# Altium schematic symbol library Microchips.SchLib: 46 symbols
Pins are listed as number, name and electrical type; pins without a type are passive.

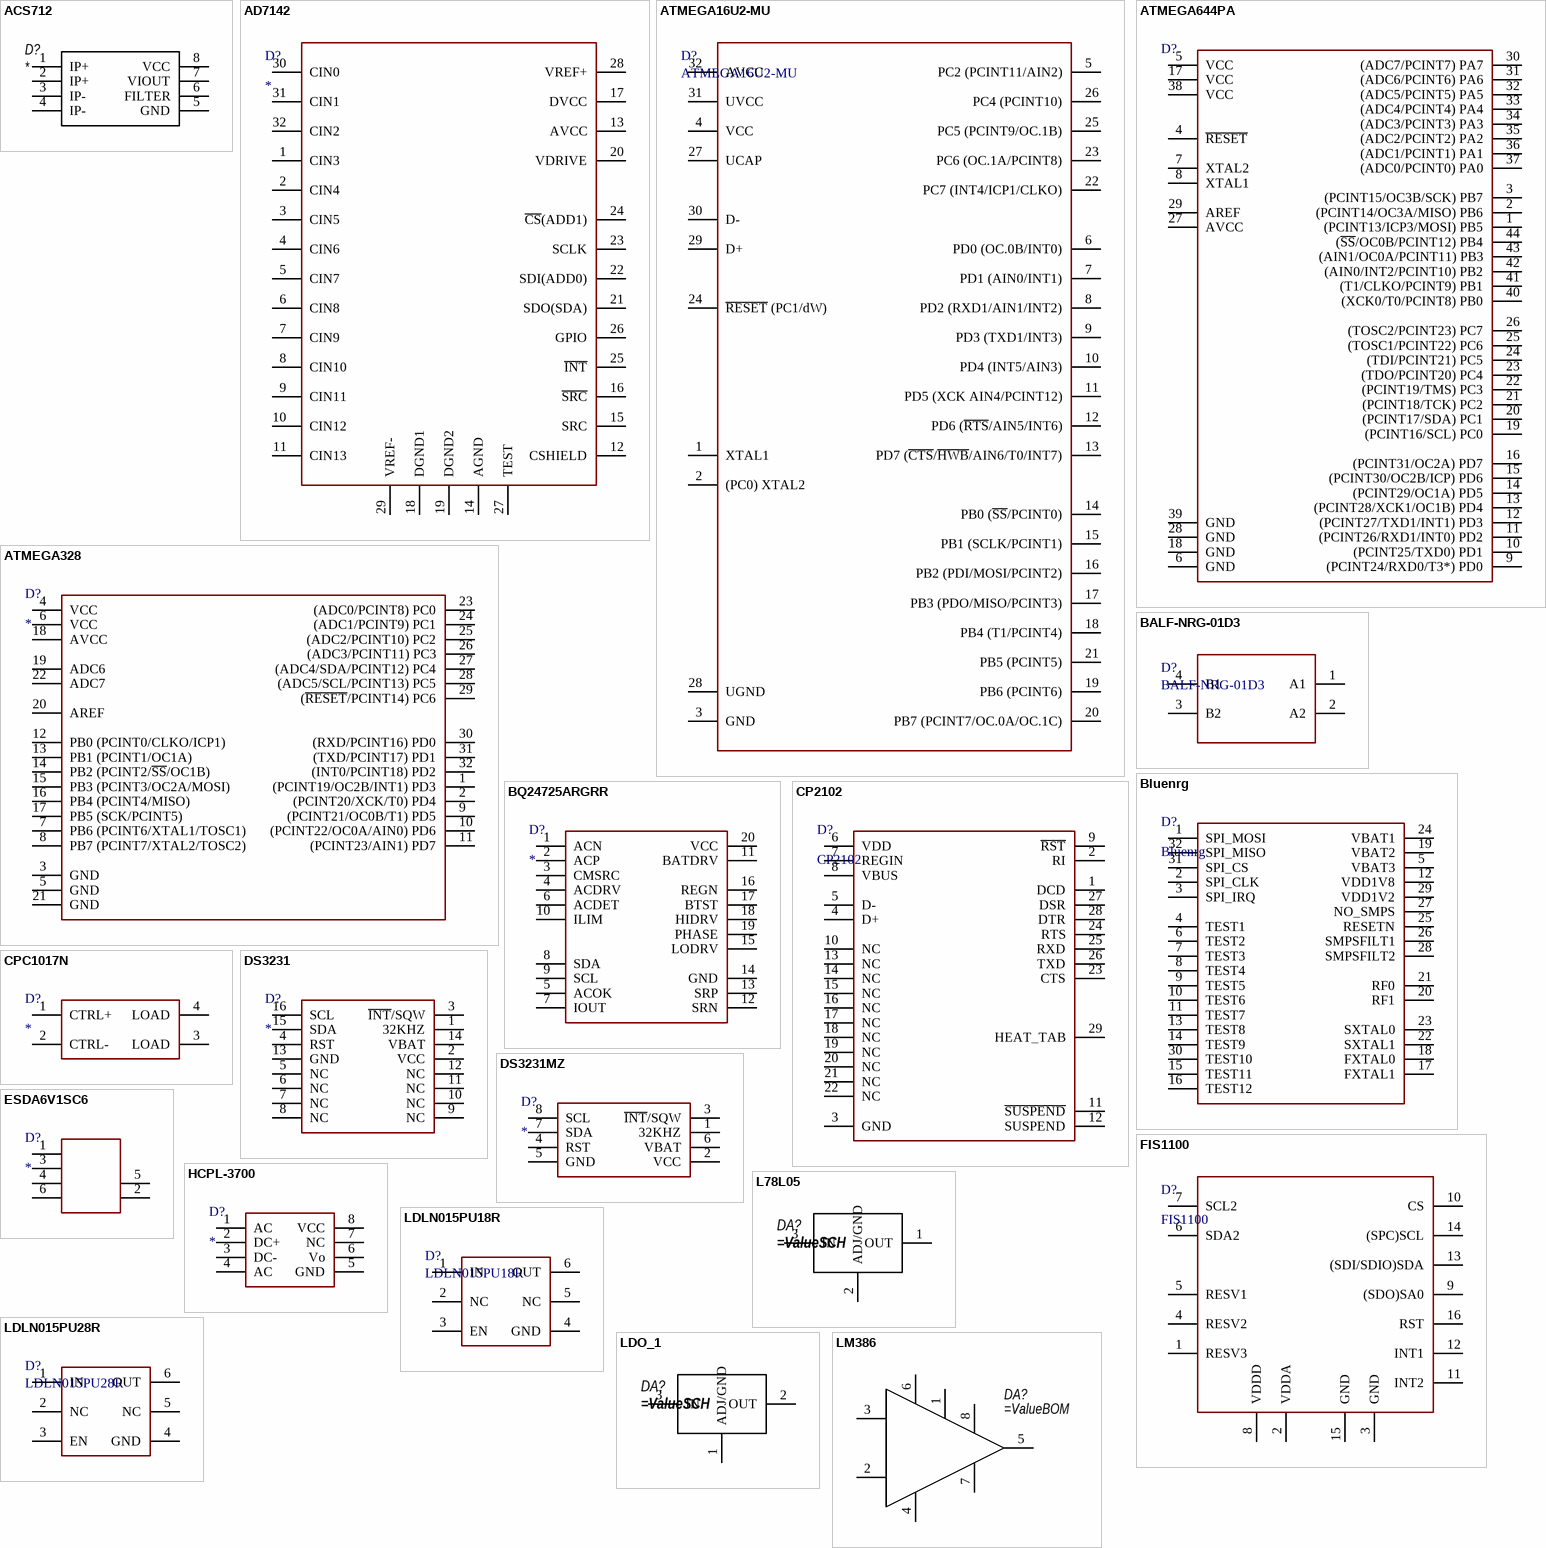
[diagram p0: symbols ACS712 to LM386]

## ACS712
designator D?
pins: 1 IP+, 2 IP+, 3 IP-, 4 IP-, 5 GND, 6 FILTER, 7 VIOUT, 8 VCC

## AD7142
designator D?
pins: 1 CIN3, 2 CIN4, 3 CIN5, 4 CIN6, 5 CIN7, 6 CIN8, 7 CIN9, 8 CIN10, 9 CIN11, 10 CIN12, 11 CIN13, 12 CSHIELD, 13 AVCC, 14 AGND, 15 SRC, 16 ~{SRC}, 17 DVCC, 18 DGND1, 19 DGND2, 20 VDRIVE, 21 SDO(SDA), 22 SDI(ADD0), 23 SCLK, 24 ~{CS}(ADD1), 25 ~{INT}, 26 GPIO, 27 TEST, 28 VREF+, 29 VREF-, 30 CIN0, 31 CIN1, 32 CIN2

## ATMEGA16U2-MU
designator D?
pins: 1 XTAL1, 2 (PC0) XTAL2, 3 GND, 4 VCC, 5 PC2 (PCINT11/AIN2), 6 PD0 (OC.0B/INT0), 7 PD1 (AIN0/INT1), 8 PD2 (RXD1/AIN1/INT2), 9 PD3 (TXD1/INT3), 10 PD4 (INT5/AIN3), 11 PD5 (XCK AIN4/PCINT12), 12 PD6 (~{RTS}/AIN5/INT6), 13 PD7 (~{CTS}/~{HWB}/AIN6/T0/INT7), 14 PB0 (~{SS}/PCINT0), 15 PB1 (SCLK/PCINT1), 16 PB2 (PDI/MOSI/PCINT2), 17 PB3 (PDO/MISO/PCINT3), 18 PB4 (T1/PCINT4), 19 PB6 (PCINT6), 20 PB7 (PCINT7/OC.0A/OC.1C), 21 PB5 (PCINT5), 22 PC7 (INT4/ICP1/CLKO), 23 PC6 (OC.1A/PCINT8), 24 ~{RESET} (PC1/dW), 25 PC5 (PCINT9/OC.1B), 26 PC4 (PCINT10), 27 UCAP, 28 UGND, 29 D+, 30 D-, 31 UVCC, 32 AVCC

## ATMEGA328
designator D?
pins: 1 (PCINT19/OC2B/INT1) PD3, 2 (PCINT20/XCK/T0) PD4, 3 GND, 4 VCC, 5 GND, 6 VCC, 7 PB6 (PCINT6/XTAL1/TOSC1), 8 PB7 (PCINT7/XTAL2/TOSC2) , 9 (PCINT21/OC0B/T1) PD5, 10 (PCINT22/OC0A/AIN0) PD6, 11 (PCINT23/AIN1) PD7, 12 PB0 (PCINT0/CLKO/ICP1), 13 PB1 (PCINT1/OC1A), 14 PB2 (PCINT2/~{SS}/OC1B), 15 PB3 (PCINT3/OC2A/MOSI), 16 PB4 (PCINT4/MISO) , 17 PB5 (SCK/PCINT5), 18 AVCC, 19 ADC6, 20 AREF, 21 GND, 22 ADC7, 23 (ADC0/PCINT8) PC0, 24 (ADC1/PCINT9) PC1, 25 (ADC2/PCINT10) PC2, 26 (ADC3/PCINT11) PC3, 27 (ADC4/SDA/PCINT12) PC4, 28 (ADC5/SCL/PCINT13) PC5, 29 (~{RESET}/PCINT14) PC6, 30 (RXD/PCINT16) PD0, 31 (TXD/PCINT17) PD1, 32 (INT0/PCINT18) PD2

## ATMEGA644PA
designator D?  (value not drawn)
pins: 1 (PCINT13/ICP3/MOSI) PB5, 2 (PCINT14/OC3A/MISO) PB6, 3 (PCINT15/OC3B/SCK) PB7, 4 ~{RESET}, 5 VCC, 6 GND, 7 XTAL2, 8 XTAL1, 9 (PCINT24/RXD0/T3*) PD0, 10 (PCINT25/TXD0) PD1, 11 (PCINT26/RXD1/INT0) PD2, 12 (PCINT27/TXD1/INT1) PD3, 13 (PCINT28/XCK1/OC1B) PD4, 14 (PCINT29/OC1A) PD5, 15 (PCINT30/OC2B/ICP) PD6, 16 (PCINT31/OC2A) PD7, 17 VCC, 18 GND, 19 (PCINT16/SCL) PC0, 20 (PCINT17/SDA) PC1, 21 (PCINT18/TCK) PC2, 22 (PCINT19/TMS) PC3, 23 (TDO/PCINT20) PC4, 24 (TDI/PCINT21) PC5, 25 (TOSC1/PCINT22) PC6, 26 (TOSC2/PCINT23) PC7, 27 AVCC, 28 GND, 29 AREF, 30 (ADC7/PCINT7) PA7, 31 (ADC6/PCINT6) PA6, 32 (ADC5/PCINT5) PA5, 33 (ADC4/PCINT4) PA4, 34 (ADC3/PCINT3) PA3, 35 (ADC2/PCINT2) PA2, 36 (ADC1/PCINT1) PA1, 37 (ADC0/PCINT0) PA0, 38 VCC, 39 GND, 40 (XCK0/T0/PCINT8) PB0, 41 (T1/CLKO/PCINT9) PB1, 42 (AIN0/INT2/PCINT10) PB2, 43 (AIN1/OC0A/PCINT11) PB3, 44 (~{SS}/OC0B/PCINT12) PB4

## BALF-NRG-01D3
designator D?
footprint BALF-NRG-BGA (BGA, 4-Leads, Body 1,40x0,85mmx0,63mm, Pitch 0,40mm)
pins: 1 A1, 2 A2, 3 B2, 4 B1

## Bluenrg
designator D?
BLUENRG MODULE
footprint QFN32 (QFN, 32-Leads, Body 5,00x5,00mm, Pitch 0,50mm, Thermal Pad 3,25x3,25mm, IPC Medium Density)
pins: 1 SPI_MOSI, 2 SPI_CLK, 3 SPI_IRQ, 4 TEST1, 5 VBAT3, 6 TEST2, 7 TEST3, 8 TEST4, 9 TEST5, 10 TEST6, 11 TEST7, 12 VDD1V8, 13 TEST8, 14 TEST9, 15 TEST11, 16 TEST12, 17 FXTAL1, 18 FXTAL0, 19 VBAT2, 20 RF1, 21 RF0, 22 SXTAL1, 23 SXTAL0, 24 VBAT1, 25 RESETN, 26 SMPSFILT1, 27 NO_SMPS, 28 SMPSFILT2, 29 VDD1V2, 30 TEST10, 31 SPI_CS, 32 SPI_MISO

## BQ24725ARGRR
designator D?
bq24725A 1-4 Cell Li+ Battery SMBus Charge Controller with N-Channel Power MOSFET  Selector
pins: 1 ACN, 2 ACP, 3 CMSRC, 4 ACDRV, 5 ACOK, 6 ACDET, 7 IOUT, 8 SDA, 9 SCL, 10 ILIM, 11 BATDRV, 12 SRN, 13 SRP, 14 GND, 15 LODRV, 16 REGN, 17 BTST, 18 HIDRV, 19 PHASE, 20 VCC

## CP2102
designator D?
footprint QFN28 (QFN, 28-Leads, Body 5,00x5,00mm, Pitch 0,50mm, Thermal Pad 3,25x3,25mm, IPC Medium Density)
pins: 1 DCD, 2 RI, 3 GND, 4 D+, 5 D-, 6 VDD, 7 REGIN, 8 VBUS, 9 ~{RST}, 10 NC, 11 ~{SUSPEND}, 12 SUSPEND, 13 NC, 14 NC, 15 NC, 16 NC, 17 NC, 18 NC, 19 NC, 20 NC, 21 NC, 22 NC, 23 CTS, 24 RTS, 25 RXD, 26 TXD, 27 DSR, 28 DTR, 29 HEAT_TAB

## CPC1017N
designator D?
pins: 1 CTRL+, 2 CTRL-, 3 LOAD, 4 LOAD

## DS3231
designator D?
pins: 1 32KHZ, 2 VCC, 3 ~{INT}/SQW, 4 RST, 5 NC, 6 NC, 7 NC, 8 NC, 9 NC, 10 NC, 11 NC, 12 NC, 13 GND, 14 VBAT, 15 SDA, 16 SCL

## DS3231MZ
designator D?
pins: 1 32KHZ, 2 VCC, 3 ~{INT}/SQW, 4 RST, 5 GND, 6 VBAT, 7 SDA, 8 SCL

## ESDA6V1SC6
designator D?
pins: 1, 2, 3, 4, 5, 6

## FIS1100
designator D?
pins: 1 RESV3, 2 VDDA, 3 GND, 4 RESV2, 5 RESV1, 6 SDA2, 7 SCL2, 8 VDDD, 9 (SDO)SA0, 10 CS, 11 INT2, 12 INT1, 13 (SDI/SDIO)SDA, 14 (SPC)SCL, 15 GND, 16 RST

## HCPL-3700
designator D?
pins: 1 AC, 2 DC+, 3 DC-, 4 AC, 5 GND, 6 Vo, 7 NC, 8 VCC

## L78L05
designator DA?
pins: 1 OUT, 2 ADJ/GND, 3 IN

## LDLN015PU18R
designator D?
pins: 1 IN, 2 NC, 3 EN, 4 GND, 5 NC, 6 OUT

## LDLN015PU28R
designator D?
pins: 1 IN, 2 NC, 3 EN, 4 GND, 5 NC, 6 OUT

## LDO_1
designator DA?
pins: 1 ADJ/GND, 2 OUT, 3 IN

## LM386
designator DA?
pins: 1, 2 -, 3 +, 4, 5, 6, 7, 8

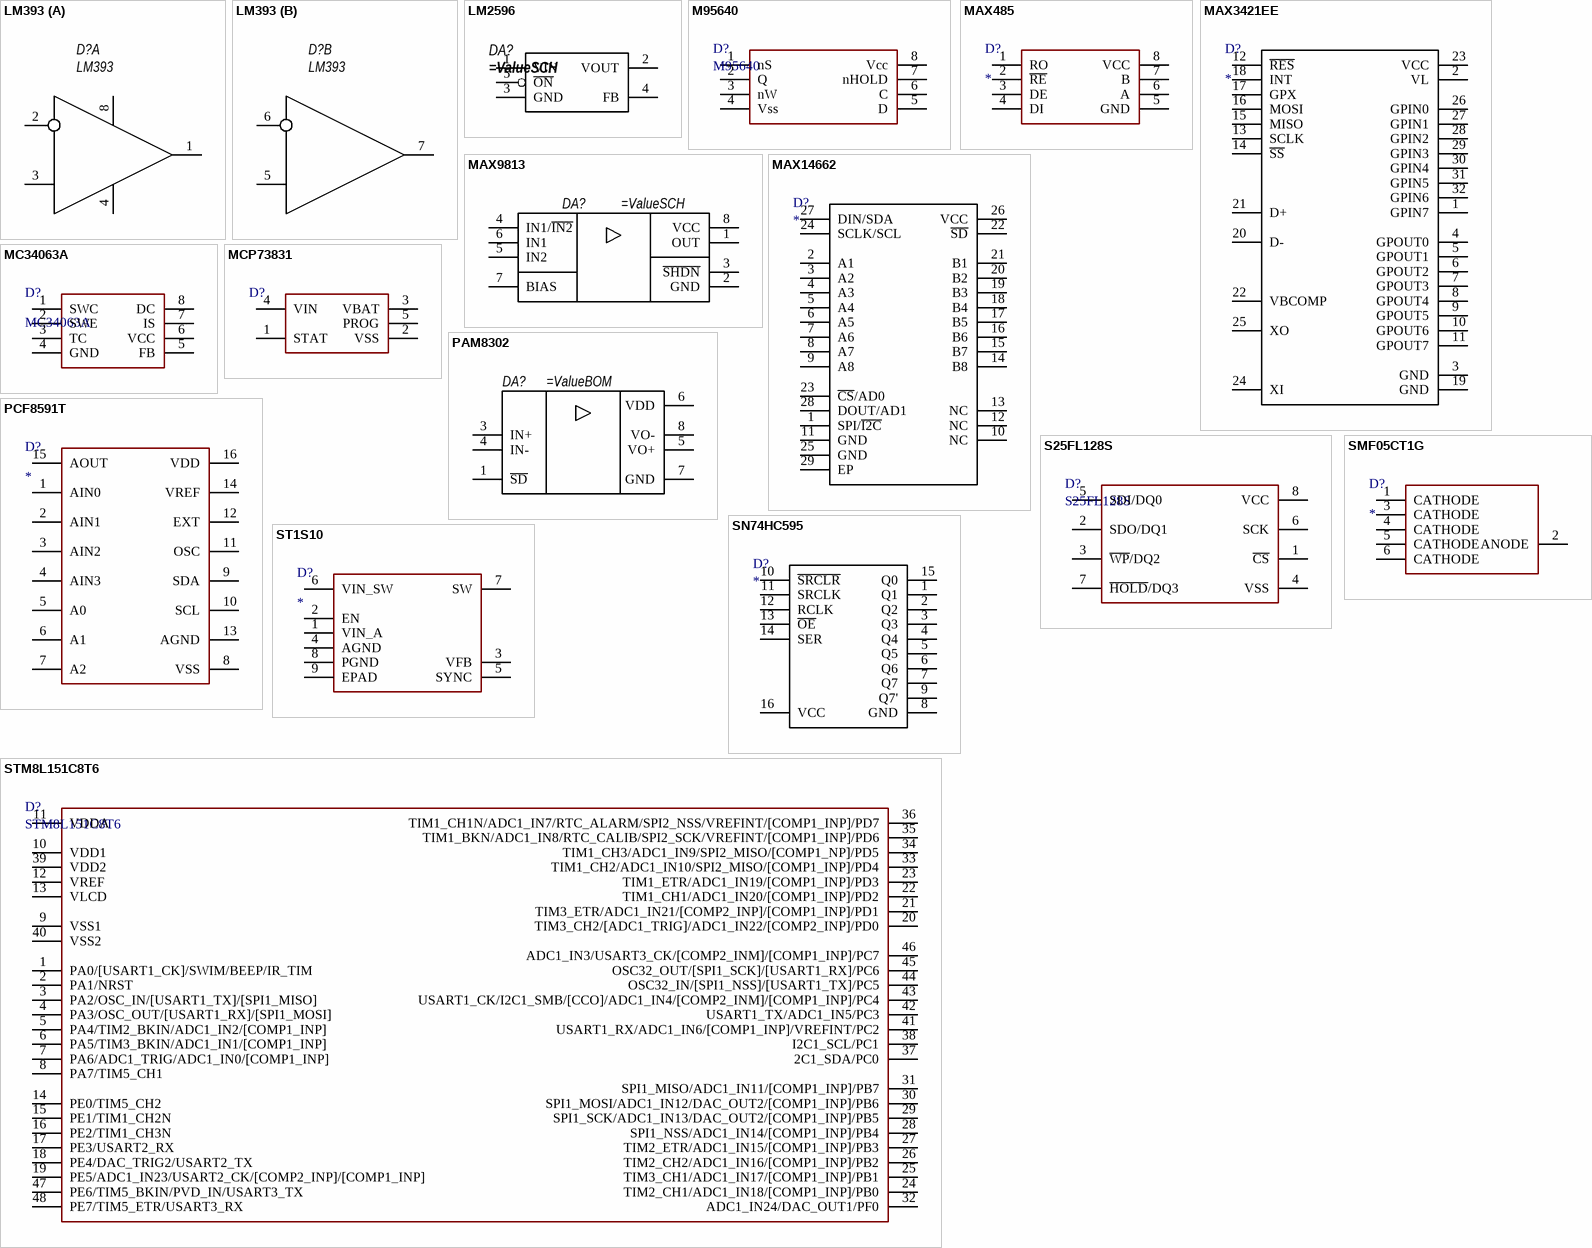
[diagram p1: symbols LM393 to STM8L151C8T6]

## LM393
designator D?
part A pins: 1, 2 -, 3 +, 4, 8
part B pins: 5 +, 6 -, 7

## LM2596
designator DA?
pins: 1 VIN, 2 VOUT, 3 GND, 4 FB, 5 ~{ON}

## M95640
designator D?
64-kbit serial SPI EEPROM
footprint SOIC-8N (SOIC, 8-Leads, Body 4,90x3,90mm, Pitch 1,27mm, IPC Medium Density)
pins: 1 nS, 2 Q, 3 nW, 4 Vss, 5 D, 6 C, 7 nHOLD, 8 Vcc

## MAX485
designator D?
pins: 1 RO, 2 ~{RE}, 3 DE, 4 DI, 5 GND, 6 A, 7 B, 8 VCC

## MAX3421EE
designator D?
pins: 1 GPIN7, 2 VL, 3 GND, 4 GPOUT0, 5 GPOUT1, 6 GPOUT2, 7 GPOUT3, 8 GPOUT4, 9 GPOUT5, 10 GPOUT6, 11 GPOUT7, 12 ~{RES}, 13 SCLK, 14 ~{SS}, 15 MISO, 16 MOSI, 17 GPX, 18 INT, 19 GND, 20 D-, 21 D+, 22 VBCOMP, 23 VCC, 24 XI, 25 XO, 26 GPIN0, 27 GPIN1, 28 GPIN2, 29 GPIN3, 30 GPIN4, 31 GPIN5, 32 GPIN6

## MAX9813
designator DA?
pins: 1 OUT, 2 GND, 3 ~{SHDN}, 4 IN1/~{IN2}, 5 IN2, 6 IN1, 7 BIAS, 8 VCC

## MAX14662
designator D?
pins: 1 SPI/~{I2C}, 2 A1, 3 A2, 4 A3, 5 A4, 6 A5, 7 A6, 8 A7, 9 A8, 10 NC, 11 GND, 12 NC, 13 NC, 14 B8, 15 B7, 16 B6, 17 B5, 18 B4, 19 B3, 20 B2, 21 B1, 22 ~{SD}, 23 ~{CS}/AD0, 24 SCLK/SCL, 25 GND, 26 VCC, 27 DIN/SDA, 28 DOUT/AD1, 29 EP

## MC34063A
designator D?
footprint SOIC-8 NB (SOIC, 8-Leads, Body 4,90x3,90mm, Pitch 1,27mm, IPC Medium Density)
pins: 1 SWC, 2 SWE, 3 TC, 4 GND, 5 FB, 6 VCC, 7 IS, 8 DC

## MCP73831
designator D?  (value not drawn)
footprint SOT23-5 (SOT23, 5-Leads, Body 2,90x2,70mm, Pitch 0,95mm, IPC Medium Density)
pins: 1 STAT, 2 VSS, 3 VBAT, 4 VIN, 5 PROG

## PAM8302
designator DA?
pins: 1 ~{SD}, 2 NC hidden, 3 IN+, 4 IN-, 5 VO+, 6 VDD, 7 GND, 8 VO-

## PCF8591T
designator D?
pins: 1 AIN0, 2 AIN1, 3 AIN2, 4 AIN3, 5 A0, 6 A1, 7 A2, 8 VSS, 9 SDA, 10 SCL, 11 OSC, 12 EXT, 13 AGND, 14 VREF, 15 AOUT, 16 VDD

## S25FL128S
designator D?
pins: 1 ~{CS}, 2 SDO/DQ1, 3 ~{WP}/DQ2, 4 VSS, 5 SDI/DQ0, 6 SCK, 7 ~{HOLD}/DQ3, 8 VCC

## SMF05CT1G
designator D?
pins: 1 CATHODE, 2 ANODE, 3 CATHODE, 4 CATHODE, 5 CATHODE, 6 CATHODE

## SN74HC595
designator D?
pins: 1 Q1, 2 Q2, 3 Q3, 4 Q4, 5 Q5, 6 Q6, 7 Q7, 8 GND, 9 Q7', 10 ~{SRCLR}, 11 SRCLK , 12 RCLK, 13 ~{OE}, 14 SER, 15 Q0, 16 VCC

## ST1S10
designator D?
pins: 1 VIN_A, 2 EN, 3 VFB, 4 AGND, 5 SYNC, 6 VIN_SW, 7 SW, 8 PGND, 9 EPAD

## STM8L151C8T6
designator D?
footprint LQFP48 (LQFP, 48-Leads, Body 7,00x7,00mm, Pitch 0,50mm, IPC Medium Density)
pins: 1 PA0/[USART1_CK]/SWIM/BEEP/IR_TIM, 2 PA1/NRST, 3 PA2/OSC_IN/[USART1_TX]/[SPI1_MISO], 4 PA3/OSC_OUT/[USART1_RX]/[SPI1_MOSI], 5 PA4/TIM2_BKIN/ADC1_IN2/[COMP1_INP], 6 PA5/TIM3_BKIN/ADC1_IN1/[COMP1_INP], 7 PA6/ADC1_TRIG/ADC1_IN0/[COMP1_INP], 8 PA7/TIM5_CH1, 9 VSS1, 10 VDD1, 11 VDDA, 12 VREF, 13 VLCD, 14 PE0/TIM5_CH2, 15 PE1/TIM1_CH2N, 16 PE2/TIM1_CH3N, 17 PE3/USART2_RX, 18 PE4/DAC_TRIG2/USART2_TX, 19 PE5/ADC1_IN23/USART2_CK/[COMP2_INP]/[COMP1_INP], 20 TIM3_CH2/[ADC1_TRIG]/ADC1_IN22/[COMP2_INP]/PD0, 21 TIM3_ETR/ADC1_IN21/[COMP2_INP]/[COMP1_INP]/PD1, 22 TIM1_CH1/ADC1_IN20/[COMP1_INP]/PD2, 23 TIM1_ETR/ADC1_IN19/[COMP1_INP]/PD3, 24 TIM2_CH1/ADC1_IN18/[COMP1_INP]/PB0, 25 TIM3_CH1/ADC1_IN17/[COMP1_INP]/PB1, 26 TIM2_CH2/ADC1_IN16/[COMP1_INP]/PB2, 27 TIM2_ETR/ADC1_IN15/[COMP1_INP]/PB3, 28 SPI1_NSS/ADC1_IN14/[COMP1_INP]/PB4, 29 SPI1_SCK/ADC1_IN13/DAC_OUT2/[COMP1_INP]/PB5, 30 SPI1_MOSI/ADC1_IN12/DAC_OUT2/[COMP1_INP]/PB6, 31 SPI1_MISO/ADC1_IN11/[COMP1_INP]/PB7, 32 ADC1_IN24/DAC_OUT1/PF0, 33 TIM1_CH2/ADC1_IN10/SPI2_MISO/[COMP1_INP]/PD4, 34 TIM1_CH3/ADC1_IN9/SPI2_MISO/[COMP1_NP]/PD5, 35 TIM1_BKN/ADC1_IN8/RTC_CALIB/SPI2_SCK/VREFINT/[COMP1_INP]/PD6, 36 TIM1_CH1N/ADC1_IN7/RTC_ALARM/SPI2_NSS/VREFINT/[COMP1_INP]/PD7, 37 2C1_SDA/PC0, 38 I2C1_SCL/PC1, 39 VDD2, 40 VSS2, 41 USART1_RX/ADC1_IN6/[COMP1_INP]/VREFINT/PC2, 42 USART1_TX/ADC1_IN5/PC3, 43 USART1_CK/I2C1_SMB/[CCO]/ADC1_IN4/[COMP2_INM]/[COMP1_INP]/PC4, 44 OSC32_IN/[SPI1_NSS]/[USART1_TX]/PC5, 45 OSC32_OUT/[SPI1_SCK]/[USART1_RX]/PC6, 46 ADC1_IN3/USART3_CK/[COMP2_INM]/[COMP1_INP]/PC7, 47 PE6/TIM5_BKIN/PVD_IN/USART3_TX, 48 PE7/TIM5_ETR/USART3_RX

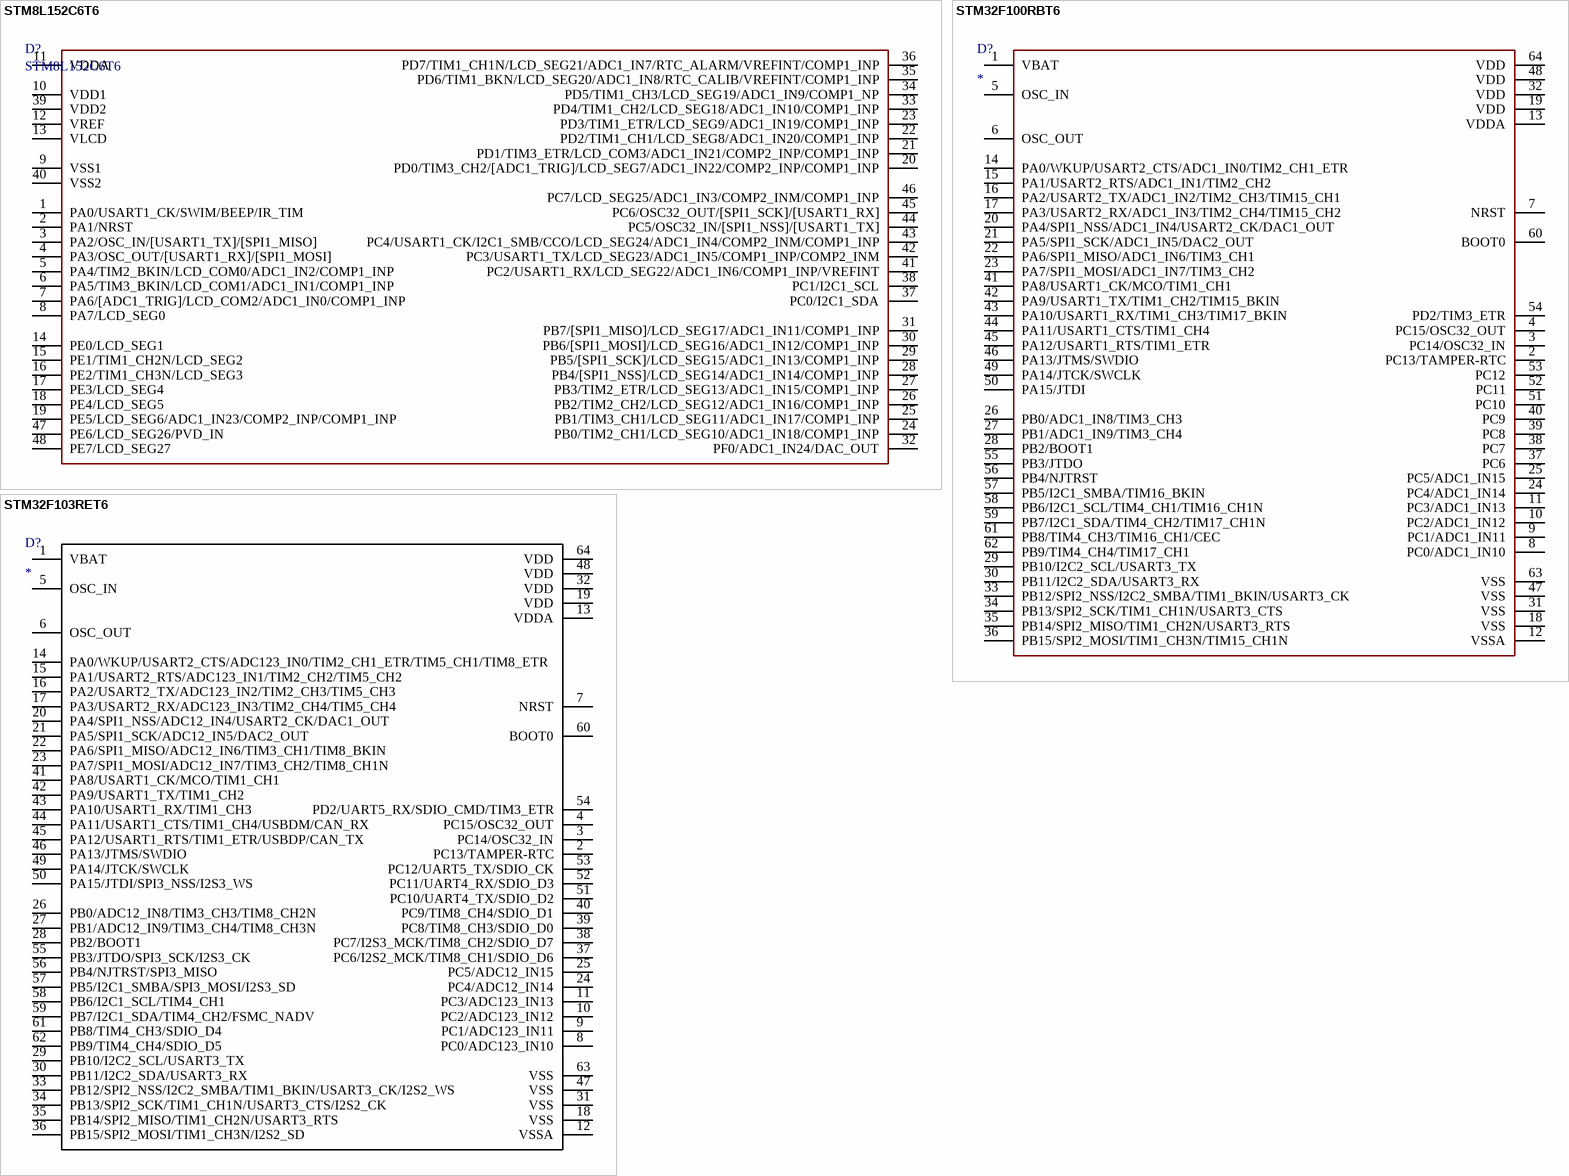
[diagram p2: symbols STM8L152C6T6 to STM32F103RET6]

## STM8L152C6T6
designator D?
footprint LQFP48 (LQFP, 48-Leads, Body 7,00x7,00mm, Pitch 0,50mm, IPC Medium Density)
pins: 1 PA0/USART1_CK/SWIM/BEEP/IR_TIM, 2 PA1/NRST, 3 PA2/OSC_IN/[USART1_TX]/[SPI1_MISO], 4 PA3/OSC_OUT/[USART1_RX]/[SPI1_MOSI], 5 PA4/TIM2_BKIN/LCD_COM0/ADC1_IN2/COMP1_INP, 6 PA5/TIM3_BKIN/LCD_COM1/ADC1_IN1/COMP1_INP, 7 PA6/[ADC1_TRIG]/LCD_COM2/ADC1_IN0/COMP1_INP, 8 PA7/LCD_SEG0, 9 VSS1, 10 VDD1, 11 VDDA, 12 VREF, 13 VLCD, 14 PE0/LCD_SEG1, 15 PE1/TIM1_CH2N/LCD_SEG2, 16 PE2/TIM1_CH3N/LCD_SEG3, 17 PE3/LCD_SEG4, 18 PE4/LCD_SEG5, 19 PE5/LCD_SEG6/ADC1_IN23/COMP2_INP/COMP1_INP, 20 PD0/TIM3_CH2/[ADC1_TRIG]/LCD_SEG7/ADC1_IN22/COMP2_INP/COMP1_INP, 21 PD1/TIM3_ETR/LCD_COM3/ADC1_IN21/COMP2_INP/COMP1_INP, 22 PD2/TIM1_CH1/LCD_SEG8/ADC1_IN20/COMP1_INP, 23 PD3/TIM1_ETR/LCD_SEG9/ADC1_IN19/COMP1_INP, 24 PB0/TIM2_CH1/LCD_SEG10/ADC1_IN18/COMP1_INP, 25 PB1/TIM3_CH1/LCD_SEG11/ADC1_IN17/COMP1_INP, 26 PB2/TIM2_CH2/LCD_SEG12/ADC1_IN16/COMP1_INP, 27 PB3/TIM2_ETR/LCD_SEG13/ADC1_IN15/COMP1_INP, 28 PB4/[SPI1_NSS]/LCD_SEG14/ADC1_IN14/COMP1_INP, 29 PB5/[SPI1_SCK]/LCD_SEG15/ADC1_IN13/COMP1_INP, 30 PB6/[SPI1_MOSI]/LCD_SEG16/ADC1_IN12/COMP1_INP, 31 PB7/[SPI1_MISO]/LCD_SEG17/ADC1_IN11/COMP1_INP, 32 PF0/ADC1_IN24/DAC_OUT, 33 PD4/TIM1_CH2/LCD_SEG18/ADC1_IN10/COMP1_INP, 34 PD5/TIM1_CH3/LCD_SEG19/ADC1_IN9/COMP1_NP, 35 PD6/TIM1_BKN/LCD_SEG20/ADC1_IN8/RTC_CALIB/VREFINT/COMP1_INP, 36 PD7/TIM1_CH1N/LCD_SEG21/ADC1_IN7/RTC_ALARM/VREFINT/COMP1_INP, 37 PC0/I2C1_SDA, 38 PC1/I2C1_SCL, 39 VDD2, 40 VSS2, 41 PC2/USART1_RX/LCD_SEG22/ADC1_IN6/COMP1_INP/VREFINT, 42 PC3/USART1_TX/LCD_SEG23/ADC1_IN5/COMP1_INP/COMP2_INM, 43 PC4/USART1_CK/I2C1_SMB/CCO/LCD_SEG24/ADC1_IN4/COMP2_INM/COMP1_INP, 44 PC5/OSC32_IN/[SPI1_NSS]/[USART1_TX], 45 PC6/OSC32_OUT/[SPI1_SCK]/[USART1_RX], 46 PC7/LCD_SEG25/ADC1_IN3/COMP2_INM/COMP1_INP, 47 PE6/LCD_SEG26/PVD_IN, 48 PE7/LCD_SEG27

## STM32F100RBT6
designator D?
pins: 1 VBAT, 2 PC13/TAMPER-RTC, 3 PC14/OSC32_IN, 4 PC15/OSC32_OUT, 5 OSC_IN, 6 OSC_OUT, 7 NRST, 8 PC0/ADC1_IN10, 9 PC1/ADC1_IN11, 10 PC2/ADC1_IN12, 11 PC3/ADC1_IN13, 12 VSSA, 13 VDDA, 14 PA0/WKUP/USART2_CTS/ADC1_IN0/TIM2_CH1_ETR, 15 PA1/USART2_RTS/ADC1_IN1/TIM2_CH2, 16 PA2/USART2_TX/ADC1_IN2/TIM2_CH3/TIM15_CH1, 17 PA3/USART2_RX/ADC1_IN3/TIM2_CH4/TIM15_CH2, 18 VSS, 19 VDD, 20 PA4/SPI1_NSS/ADC1_IN4/USART2_CK/DAC1_OUT, 21 PA5/SPI1_SCK/ADC1_IN5/DAC2_OUT, 22 PA6/SPI1_MISO/ADC1_IN6/TIM3_CH1, 23 PA7/SPI1_MOSI/ADC1_IN7/TIM3_CH2, 24 PC4/ADC1_IN14, 25 PC5/ADC1_IN15, 26 PB0/ADC1_IN8/TIM3_CH3, 27 PB1/ADC1_IN9/TIM3_CH4, 28 PB2/BOOT1, 29 PB10/I2C2_SCL/USART3_TX, 30 PB11/I2C2_SDA/USART3_RX, 31 VSS, 32 VDD, 33 PB12/SPI2_NSS/I2C2_SMBA/TIM1_BKIN/USART3_CK, 34 PB13/SPI2_SCK/TIM1_CH1N/USART3_CTS, 35 PB14/SPI2_MISO/TIM1_CH2N/USART3_RTS, 36 PB15/SPI2_MOSI/TIM1_CH3N/TIM15_CH1N, 37 PC6, 38 PC7, 39 PC8, 40 PC9, 41 PA8/USART1_CK/MCO/TIM1_CH1, 42 PA9/USART1_TX/TIM1_CH2/TIM15_BKIN, 43 PA10/USART1_RX/TIM1_CH3/TIM17_BKIN, 44 PA11/USART1_CTS/TIM1_CH4, 45 PA12/USART1_RTS/TIM1_ETR, 46 PA13/JTMS/SWDIO, 47 VSS, 48 VDD, 49 PA14/JTCK/SWCLK, 50 PA15/JTDI, 51 PC10, 52 PC11, 53 PC12, 54 PD2/TIM3_ETR, 55 PB3/JTDO, 56 PB4/NJTRST, 57 PB5/I2C1_SMBA/TIM16_BKIN, 58 PB6/I2C1_SCL/TIM4_CH1/TIM16_CH1N, 59 PB7/I2C1_SDA/TIM4_CH2/TIM17_CH1N, 60 BOOT0, 61 PB8/TIM4_CH3/TIM16_CH1/CEC, 62 PB9/TIM4_CH4/TIM17_CH1, 63 VSS, 64 VDD

## STM32F103RET6
designator D?
pins: 1 VBAT, 2 PC13/TAMPER-RTC, 3 PC14/OSC32_IN, 4 PC15/OSC32_OUT, 5 OSC_IN, 6 OSC_OUT, 7 NRST, 8 PC0/ADC123_IN10, 9 PC1/ADC123_IN11, 10 PC2/ADC123_IN12, 11 PC3/ADC123_IN13, 12 VSSA, 13 VDDA, 14 PA0/WKUP/USART2_CTS/ADC123_IN0/TIM2_CH1_ETR/TIM5_CH1/TIM8_ETR, 15 PA1/USART2_RTS/ADC123_IN1/TIM2_CH2/TIM5_CH2, 16 PA2/USART2_TX/ADC123_IN2/TIM2_CH3/TIM5_CH3, 17 PA3/USART2_RX/ADC123_IN3/TIM2_CH4/TIM5_CH4, 18 VSS, 19 VDD, 20 PA4/SPI1_NSS/ADC12_IN4/USART2_CK/DAC1_OUT, 21 PA5/SPI1_SCK/ADC12_IN5/DAC2_OUT, 22 PA6/SPI1_MISO/ADC12_IN6/TIM3_CH1/TIM8_BKIN, 23 PA7/SPI1_MOSI/ADC12_IN7/TIM3_CH2/TIM8_CH1N, 24 PC4/ADC12_IN14, 25 PC5/ADC12_IN15, 26 PB0/ADC12_IN8/TIM3_CH3/TIM8_CH2N, 27 PB1/ADC12_IN9/TIM3_CH4/TIM8_CH3N, 28 PB2/BOOT1, 29 PB10/I2C2_SCL/USART3_TX, 30 PB11/I2C2_SDA/USART3_RX, 31 VSS, 32 VDD, 33 PB12/SPI2_NSS/I2C2_SMBA/TIM1_BKIN/USART3_CK/I2S2_WS, 34 PB13/SPI2_SCK/TIM1_CH1N/USART3_CTS/I2S2_CK, 35 PB14/SPI2_MISO/TIM1_CH2N/USART3_RTS, 36 PB15/SPI2_MOSI/TIM1_CH3N/I2S2_SD, 37 PC6/I2S2_MCK/TIM8_CH1/SDIO_D6, 38 PC7/I2S3_MCK/TIM8_CH2/SDIO_D7, 39 PC8/TIM8_CH3/SDIO_D0, 40 PC9/TIM8_CH4/SDIO_D1, 41 PA8/USART1_CK/MCO/TIM1_CH1, 42 PA9/USART1_TX/TIM1_CH2, 43 PA10/USART1_RX/TIM1_CH3, 44 PA11/USART1_CTS/TIM1_CH4/USBDM/CAN_RX, 45 PA12/USART1_RTS/TIM1_ETR/USBDP/CAN_TX, 46 PA13/JTMS/SWDIO, 47 VSS, 48 VDD, 49 PA14/JTCK/SWCLK, 50 PA15/JTDI/SPI3_NSS/I2S3_WS, 51 PC10/UART4_TX/SDIO_D2, 52 PC11/UART4_RX/SDIO_D3, 53 PC12/UART5_TX/SDIO_CK, 54 PD2/UART5_RX/SDIO_CMD/TIM3_ETR, 55 PB3/JTDO/SPI3_SCK/I2S3_CK, 56 PB4/NJTRST/SPI3_MISO, 57 PB5/I2C1_SMBA/SPI3_MOSI/I2S3_SD, 58 PB6/I2C1_SCL/TIM4_CH1, 59 PB7/I2C1_SDA/TIM4_CH2/FSMC_NADV, 60 BOOT0, 61 PB8/TIM4_CH3/SDIO_D4, 62 PB9/TIM4_CH4/SDIO_D5, 63 VSS, 64 VDD

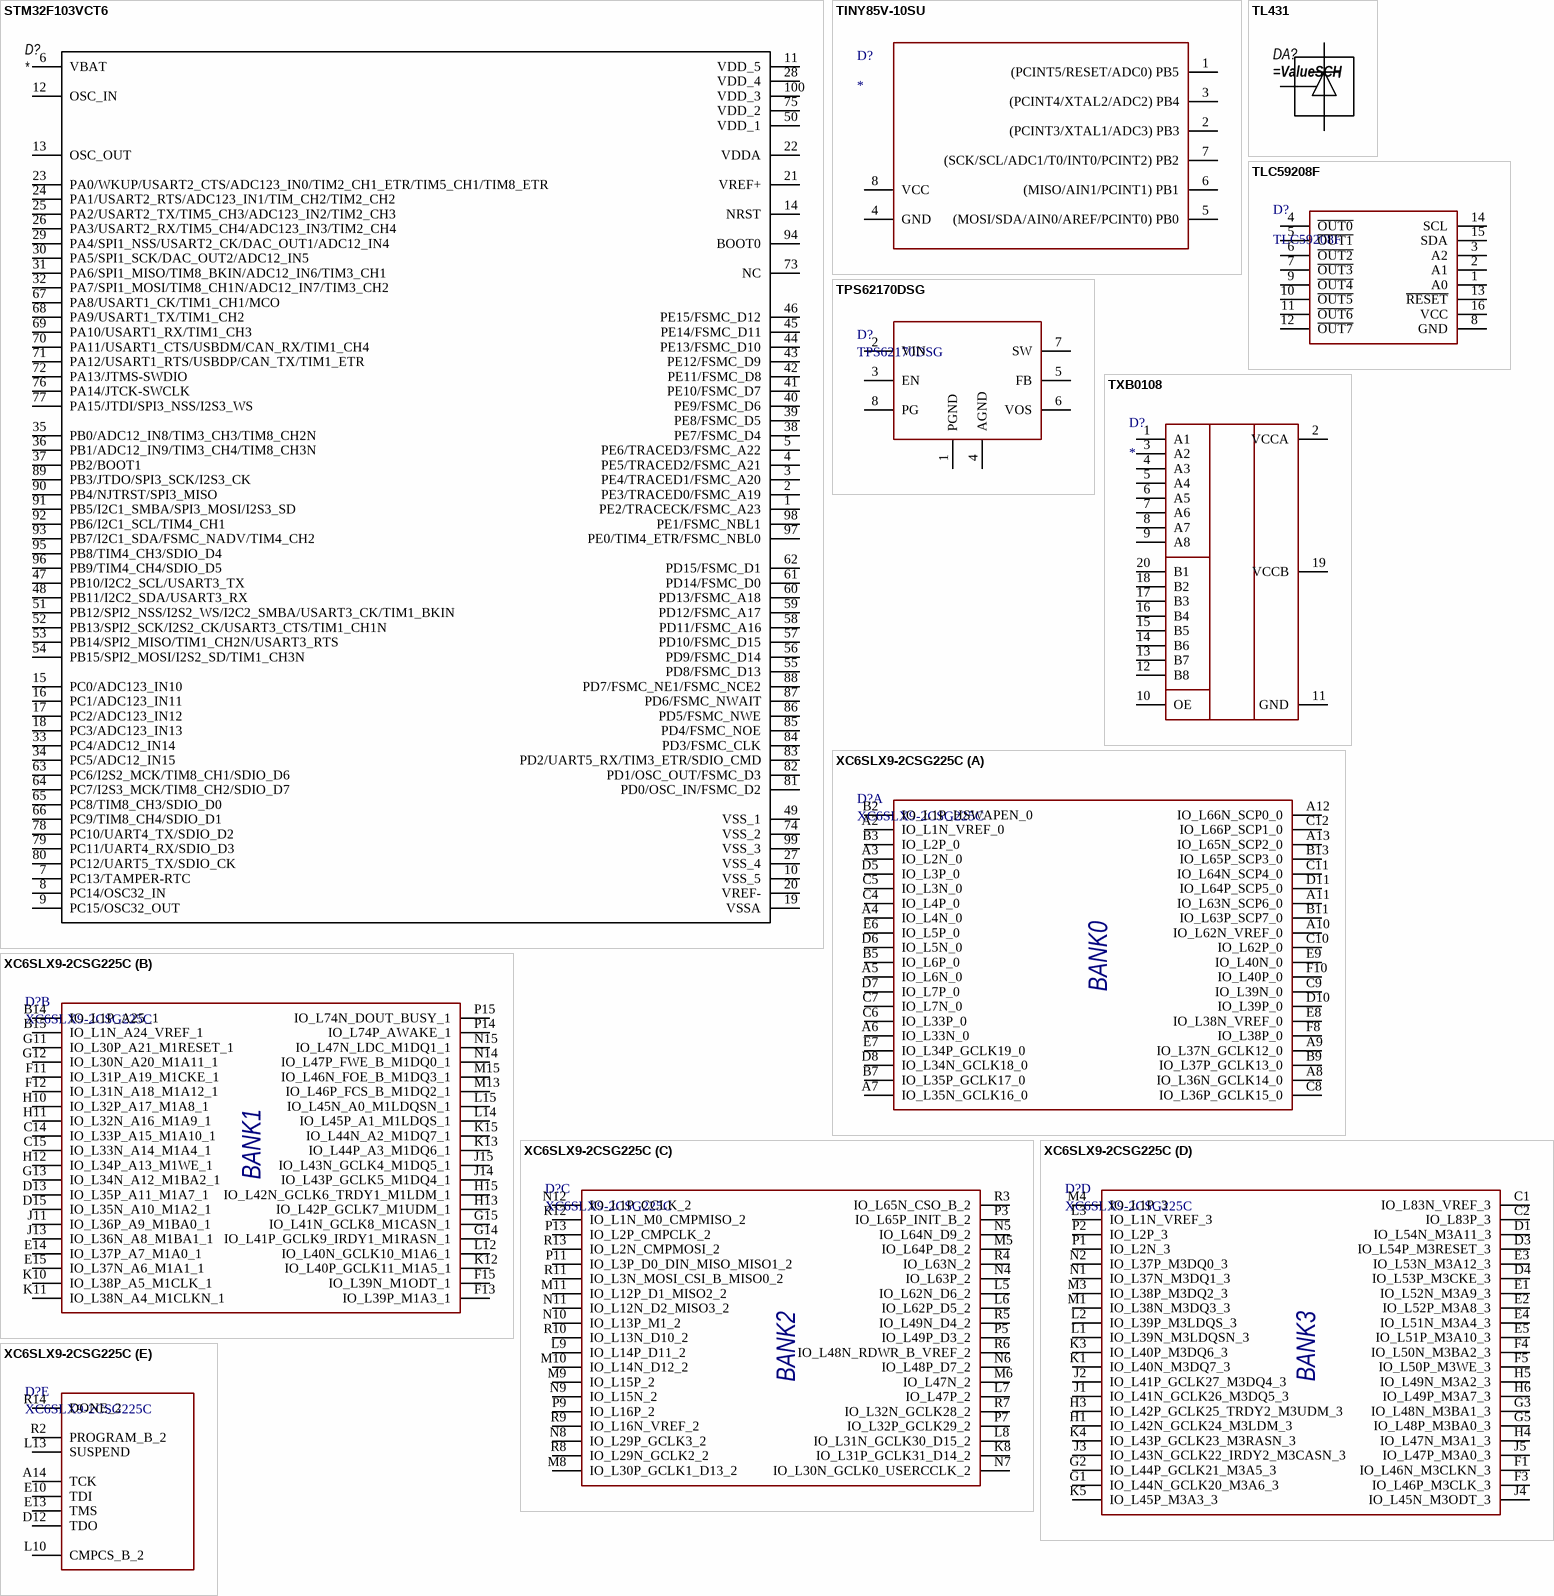
[diagram p3: symbols STM32F103VCT6 to XC6SLX9-2CSG225C]

## STM32F103VCT6
designator D?
LQFP100
pins: 1 PE2/TRACECK/FSMC_A23, 2 PE3/TRACED0/FSMC_A19, 3 PE4/TRACED1/FSMC_A20, 4 PE5/TRACED2/FSMC_A21, 5 PE6/TRACED3/FSMC_A22, 6 VBAT, 7 PC13/TAMPER-RTC, 8 PC14/OSC32_IN, 9 PC15/OSC32_OUT, 10 VSS_5, 11 VDD_5, 12 OSC_IN, 13 OSC_OUT, 14 NRST, 15 PC0/ADC123_IN10, 16 PC1/ADC123_IN11, 17 PC2/ADC123_IN12, 18 PC3/ADC123_IN13, 19 VSSA, 20 VREF-, 21 VREF+, 22 VDDA, 23 PA0/WKUP/USART2_CTS/ADC123_IN0/TIM2_CH1_ETR/TIM5_CH1/TIM8_ETR, 24 PA1/USART2_RTS/ADC123_IN1/TIM_CH2/TIM2_CH2, 25 PA2/USART2_TX/TIM5_CH3/ADC123_IN2/TIM2_CH3, 26 PA3/USART2_RX/TIM5_CH4/ADC123_IN3/TIM2_CH4, 27 VSS_4, 28 VDD_4, 29 PA4/SPI1_NSS/USART2_CK/DAC_OUT1/ADC12_IN4, 30 PA5/SPI1_SCK/DAC_OUT2/ADC12_IN5, 31 PA6/SPI1_MISO/TIM8_BKIN/ADC12_IN6/TIM3_CH1, 32 PA7/SPI1_MOSI/TIM8_CH1N/ADC12_IN7/TIM3_CH2, 33 PC4/ADC12_IN14, 34 PC5/ADC12_IN15, 35 PB0/ADC12_IN8/TIM3_CH3/TIM8_CH2N, 36 PB1/ADC12_IN9/TIM3_CH4/TIM8_CH3N, 37 PB2/BOOT1, 38 PE7/FSMC_D4, 39 PE8/FSMC_D5, 40 PE9/FSMC_D6, 41 PE10/FSMC_D7, 42 PE11/FSMC_D8, 43 PE12/FSMC_D9, 44 PE13/FSMC_D10, 45 PE14/FSMC_D11, 46 PE15/FSMC_D12, 47 PB10/I2C2_SCL/USART3_TX, 48 PB11/I2C2_SDA/USART3_RX, 49 VSS_1, 50 VDD_1, 51 PB12/SPI2_NSS/I2S2_WS/I2C2_SMBA/USART3_CK/TIM1_BKIN, 52 PB13/SPI2_SCK/I2S2_CK/USART3_CTS/TIM1_CH1N, 53 PB14/SPI2_MISO/TIM1_CH2N/USART3_RTS, 54 PB15/SPI2_MOSI/I2S2_SD/TIM1_CH3N, 55 PD8/FSMC_D13, 56 PD9/FSMC_D14, 57 PD10/FSMC_D15, 58 PD11/FSMC_A16, 59 PD12/FSMC_A17, 60 PD13/FSMC_A18, 61 PD14/FSMC_D0, 62 PD15/FSMC_D1, 63 PC6/I2S2_MCK/TIM8_CH1/SDIO_D6, 64 PC7/I2S3_MCK/TIM8_CH2/SDIO_D7, 65 PC8/TIM8_CH3/SDIO_D0, 66 PC9/TIM8_CH4/SDIO_D1, 67 PA8/USART1_CK/TIM1_CH1/MCO, 68 PA9/USART1_TX/TIM1_CH2, 69 PA10/USART1_RX/TIM1_CH3, 70 PA11/USART1_CTS/USBDM/CAN_RX/TIM1_CH4, 71 PA12/USART1_RTS/USBDP/CAN_TX/TIM1_ETR, 72 PA13/JTMS-SWDIO, 73 NC, 74 VSS_2, 75 VDD_2, 76 PA14/JTCK-SWCLK, 77 PA15/JTDI/SPI3_NSS/I2S3_WS, 78 PC10/UART4_TX/SDIO_D2, 79 PC11/UART4_RX/SDIO_D3, 80 PC12/UART5_TX/SDIO_CK, 81 PD0/OSC_IN/FSMC_D2, 82 PD1/OSC_OUT/FSMC_D3, 83 PD2/UART5_RX/TIM3_ETR/SDIO_CMD, 84 PD3/FSMC_CLK, 85 PD4/FSMC_NOE, 86 PD5/FSMC_NWE, 87 PD6/FSMC_NWAIT, 88 PD7/FSMC_NE1/FSMC_NCE2, 89 PB3/JTDO/SPI3_SCK/I2S3_CK, 90 PB4/NJTRST/SPI3_MISO, 91 PB5/I2C1_SMBA/SPI3_MOSI/I2S3_SD, 92 PB6/I2C1_SCL/TIM4_CH1, 93 PB7/I2C1_SDA/FSMC_NADV/TIM4_CH2, 94 BOOT0, 95 PB8/TIM4_CH3/SDIO_D4, 96 PB9/TIM4_CH4/SDIO_D5, 97 PE0/TIM4_ETR/FSMC_NBL0, 98 PE1/FSMC_NBL1, 99 VSS_3, 100 VDD_3

## TINY85V-10SU
designator D?
Tiny85V-10SU mcu
pins: 1 (PCINT5/RESET/ADC0) PB5, 2 (PCINT3/XTAL1/ADC3) PB3, 3 (PCINT4/XTAL2/ADC2) PB4, 4 GND, 5 (MOSI/SDA/AIN0/AREF/PCINT0) PB0, 6 (MISO/AIN1/PCINT1) PB1, 7 (SCK/SCL/ADC1/T0/INT0/PCINT2) PB2, 8 VCC

## TL431
designator DA?
pins: 1, 2, 3

## TLC59208F
designator D?
pins: 1 A0, 2 A1, 3 A2, 4 ~{OUT0}, 5 ~{OUT1}, 6 ~{OUT2}, 7 ~{OUT3}, 8 GND, 9 ~{OUT4}, 10 ~{OUT5}, 11 ~{OUT6}, 12 ~{OUT7}, 13 ~{RESET}, 14 SCL, 15 SDA, 16 VCC

## TPS62170DSG
designator D?
pins: 1 PGND, 2 VIN, 3 EN, 4 AGND, 5 FB, 6 VOS, 7 SW, 8 PG

## TXB0108
designator D?
pins: 1 A1, 2 VCCA, 3 A2, 4 A3, 5 A4, 6 A5, 7 A6, 8 A7, 9 A8, 10 OE, 11 GND, 12 B8, 13 B7, 14 B6, 15 B5, 16 B4, 17 B3, 18 B2, 19 VCCB, 20 B1

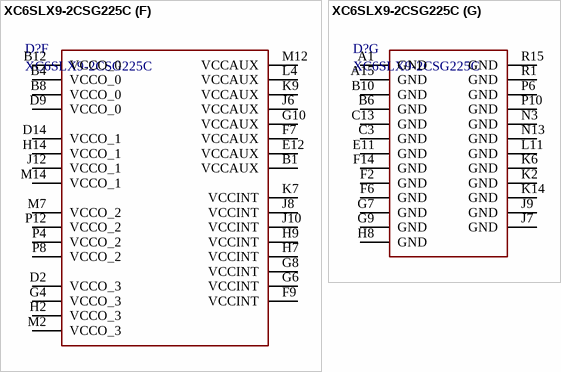
[diagram p4: symbol XC6SLX9-2CSG225C]

## XC6SLX9-2CSG225C
designator D?
footprint CSG225 (BGA, 225-Leads, Body 13x13mm, Pitch 0.8mm)
part A pins: A2 IO_L1N_VREF_0, A3 IO_L2N_0, A4 IO_L4N_0, A5 IO_L6N_0, A6 IO_L33N_0, A7 IO_L35N_GCLK16_0, A8 IO_L36N_GCLK14_0, A9 IO_L37N_GCLK12_0, A10 IO_L62N_VREF_0, A11 IO_L63N_SCP6_0, A12 IO_L66N_SCP0_0, A13 IO_L65N_SCP2_0, B2 IO_L1P_HSWAPEN_0, B3 IO_L2P_0, B5 IO_L6P_0, B7 IO_L35P_GCLK17_0, B9 IO_L37P_GCLK13_0, B11 IO_L63P_SCP7_0, B13 IO_L65P_SCP3_0, C4 IO_L4P_0, C5 IO_L3N_0, C6 IO_L33P_0, C7 IO_L7N_0, C8 IO_L36P_GCLK15_0, C9 IO_L39N_0, C10 IO_L62P_0, C11 IO_L64N_SCP4_0, C12 IO_L66P_SCP1_0, D5 IO_L3P_0, D6 IO_L5N_0, D7 IO_L7P_0, D8 IO_L34N_GCLK18_0, D10 IO_L39P_0, D11 IO_L64P_SCP5_0, E6 IO_L5P_0, E7 IO_L34P_GCLK19_0, E8 IO_L38N_VREF_0, E9 IO_L40N_0, F8 IO_L38P_0, F10 IO_L40P_0
part B pins: B14 IO_L1P_A25_1, B15 IO_L1N_A24_VREF_1, C14 IO_L33P_A15_M1A10_1, C15 IO_L33N_A14_M1A4_1, D13 IO_L35P_A11_M1A7_1, D15 IO_L35N_A10_M1A2_1, E14 IO_L37P_A7_M1A0_1, E15 IO_L37N_A6_M1A1_1, F11 IO_L31P_A19_M1CKE_1, F12 IO_L31N_A18_M1A12_1, F13 IO_L39P_M1A3_1, F15 IO_L39N_M1ODT_1, G11 IO_L30P_A21_M1RESET_1, G12 IO_L30N_A20_M1A11_1, G13 IO_L34N_A12_M1BA2_1, G14 IO_L41P_GCLK9_IRDY1_M1RASN_1, G15 IO_L41N_GCLK8_M1CASN_1, H10 IO_L32P_A17_M1A8_1, H11 IO_L32N_A16_M1A9_1, H12 IO_L34P_A13_M1WE_1, H13 IO_L42P_GCLK7_M1UDM_1, H15 IO_L42N_GCLK6_TRDY1_M1LDM_1, J11 IO_L36P_A9_M1BA0_1, J13 IO_L36N_A8_M1BA1_1, J14 IO_L43P_GCLK5_M1DQ4_1, J15 IO_L43N_GCLK4_M1DQ5_1, K10 IO_L38P_A5_M1CLK_1, K11 IO_L38N_A4_M1CLKN_1, K12 IO_L40P_GCLK11_M1A5_1, K13 IO_L44P_A3_M1DQ6_1, K15 IO_L44N_A2_M1DQ7_1, L12 IO_L40N_GCLK10_M1A6_1, L14 IO_L45P_A1_M1LDQS_1, L15 IO_L45N_A0_M1LDQSN_1, M13 IO_L46P_FCS_B_M1DQ2_1, M15 IO_L46N_FOE_B_M1DQ3_1, N14 IO_L47P_FWE_B_M1DQ0_1, N15 IO_L47N_LDC_M1DQ1_1, P14 IO_L74P_AWAKE_1, P15 IO_L74N_DOUT_BUSY_1
part C pins: K8 IO_L31P_GCLK31_D14_2, L5 IO_L62N_D6_2, L6 IO_L62P_D5_2, L7 IO_L47P_2, L8 IO_L31N_GCLK30_D15_2, L9 IO_L14P_D11_2, M5 IO_L64P_D8_2, M6 IO_L47N_2, M8 IO_L30P_GCLK1_D13_2, M9 IO_L15P_2, M10 IO_L14N_D12_2, M11 IO_L12P_D1_MISO2_2, N4 IO_L63P_2, N5 IO_L64N_D9_2, N6 IO_L48P_D7_2, N7 IO_L30N_GCLK0_USERCCLK_2, N8 IO_L29P_GCLK3_2, N9 IO_L15N_2, N10 IO_L13P_M1_2, N11 IO_L12N_D2_MISO3_2, N12 IO_L1P_CCLK_2, P3 IO_L65P_INIT_B_2, P5 IO_L49P_D3_2, P7 IO_L32P_GCLK29_2, P9 IO_L16P_2, P11 IO_L3P_D0_DIN_MISO_MISO1_2, P13 IO_L2P_CMPCLK_2, R3 IO_L65N_CSO_B_2, R4 IO_L63N_2, R5 IO_L49N_D4_2, R6 IO_L48N_RDWR_B_VREF_2, R7 IO_L32N_GCLK28_2, R8 IO_L29N_GCLK2_2, R9 IO_L16N_VREF_2, R10 IO_L13N_D10_2, R11 IO_L3N_MOSI_CSI_B_MISO0_2, R12 IO_L1N_M0_CMPMISO_2, R13 IO_L2N_CMPMOSI_2
part D pins: C1 IO_L83N_VREF_3, C2 IO_L83P_3, D1 IO_L54N_M3A11_3, D3 IO_L54P_M3RESET_3, D4 IO_L53P_M3CKE_3, E1 IO_L52N_M3A9_3, E2 IO_L52P_M3A8_3, E3 IO_L53N_M3A12_3, E4 IO_L51N_M3A4_3, E5 IO_L51P_M3A10_3, F1 IO_L46N_M3CLKN_3, F3 IO_L46P_M3CLK_3, F4 IO_L50N_M3BA2_3, F5 IO_L50P_M3WE_3, G1 IO_L44N_GCLK20_M3A6_3, G2 IO_L44P_GCLK21_M3A5_3, G3 IO_L48N_M3BA1_3, G5 IO_L48P_M3BA0_3, H1 IO_L42N_GCLK24_M3LDM_3, H3 IO_L42P_GCLK25_TRDY2_M3UDM_3, H4 IO_L47N_M3A1_3, H5 IO_L49N_M3A2_3, H6 IO_L49P_M3A7_3, J1 IO_L41N_GCLK26_M3DQ5_3, J2 IO_L41P_GCLK27_M3DQ4_3, J3 IO_L43N_GCLK22_IRDY2_M3CASN_3, J4 IO_L45N_M3ODT_3, J5 IO_L47P_M3A0_3, K1 IO_L40N_M3DQ7_3, K3 IO_L40P_M3DQ6_3, K4 IO_L43P_GCLK23_M3RASN_3, K5 IO_L45P_M3A3_3, L1 IO_L39N_M3LDQSN_3, L2 IO_L39P_M3LDQS_3, L3 IO_L1N_VREF_3, M1 IO_L38N_M3DQ3_3, M3 IO_L38P_M3DQ2_3, M4 IO_L1P_3, N1 IO_L37N_M3DQ1_3, N2 IO_L37P_M3DQ0_3, P1 IO_L2N_3, P2 IO_L2P_3
part E pins: A14 TCK, D12 TDO, E10 TDI, E13 TMS, L10 CMPCS_B_2, L13 SUSPEND, R2 PROGRAM_B_2, R14 DONE_2
part F pins: B1 VCCAUX, B4 VCCO_0, B8 VCCO_0, B12 VCCO_0, D2 VCCO_3, D9 VCCO_0, D14 VCCO_1, E12 VCCAUX, F7 VCCAUX, F9 VCCINT, G4 VCCO_3, G6 VCCINT, G8 VCCINT, G10 VCCAUX, H2 VCCO_3, H7 VCCINT, H9 VCCINT, H14 VCCO_1, J6 VCCAUX, J8 VCCINT, J10 VCCINT, J12 VCCO_1, K7 VCCINT, K9 VCCAUX, L4 VCCAUX, M2 VCCO_3, M7 VCCO_2, M12 VCCAUX, M14 VCCO_1, P4 VCCO_2, P8 VCCO_2, P12 VCCO_2
part G pins: A1 GND, A15 GND, B6 GND, B10 GND, C3 GND, C13 GND, E11 GND, F2 GND, F6 GND, F14 GND, G7 GND, G9 GND, H8 GND, J7 GND, J9 GND, K2 GND, K6 GND, K14 GND, L11 GND, N3 GND, N13 GND, P6 GND, P10 GND, R1 GND, R15 GND
part A text: BANK0
part B text: BANK1
part C text: BANK2
part D text: BANK3